# Altium schematic symbol library usb_to_rs232.SchLib: 3 symbols
Pins are listed as number, name and electrical type; pins without a type are passive.

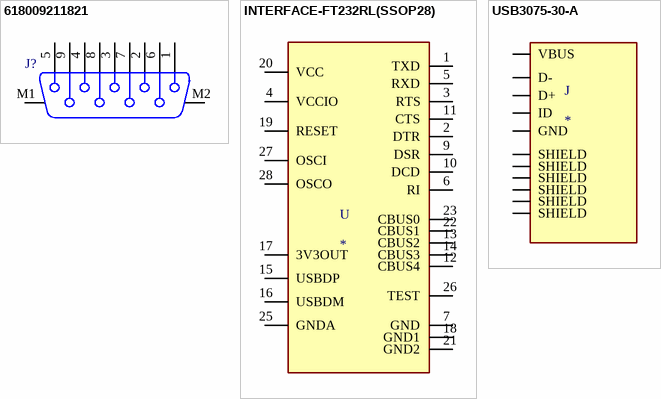
[diagram p0: symbols 618009211821 to USB3075-30-A]

## 618009211821
designator J?
WR-DSUB 8.08mm Female PCB Connector without Hex Screw, Angled, 9p; Manufacturer Part Number: 618009211821; Manufacturer: Wurth Elektronik; Pin Number: 9; Rated Current: 3A; Contact Resistance: 30mOhm; Working Voltage: 125VAC; Withstanding Voltage: 1000VAC; ComponentLink1Description: Manufacturer; ComponentLink1URL: http://www.we-online.de; ComponentLink2Description: Datasheet; ComponentLink2URL: https://www.we-online.com/catalog/datasheet/618009211821.pdf; Published Date: April 2021; Type: Angled; Operating Temperature: -55 to +105degC; Mounting Technology: THT; Gender: Female; Packaging: Tray
footprint 618009211821
pins: 1, 2, 3, 4, 5, 6, 7, 8, 9, M1, M2

## INTERFACE-FT232RL(SSOP28)
designator U
USB Bridge, USB to UART USB 2.0 UART Interface 28-SSOP; MP: FT232RL; MF: FTDI, Future; SnapEDA_Link: https://www.snapeda.com/parts/FT232RL/FTDI%2C%20Future%20Technology%20Devices%20International%20Ltd/view-part/1077088/?ref=snap; Package: SSOP-28 FTDI, Future; Price: None; Value: *; Availability: Unavailable
footprint SSOP28-0.65-10.2X5.2MM
pins: 1 TXD, 2 DTR, 3 RTS, 4 VCCIO, 5 RXD, 6 RI, 7 GND, 9 DSR, 10 DCD, 11 CTS, 12 CBUS4, 13 CBUS2, 14 CBUS3, 15 USBDP, 16 USBDM, 17 3V3OUT, 18 GND1, 19 RESET, 20 VCC, 21 GND2, 22 CBUS1, 23 CBUS0, 25 GNDA, 26 TEST, 27 OSCI, 28 OSCO

## USB3075-30-A
designator J
USB - micro B USB 2.0 Receptacle Connector 5 Position Surface Mount, Right Angle; Through Hole; MF: Global Connector Technology; MP: USB3075-30-A; SnapEDA_Link: https://www.snapeda.com/parts/USB3075-30-A/Global%20Connector%20Technology/view-part/229370/?ref=snap; Value: *; Digi-Key_Part_Number: 2073-USB3075-30-ACT-ND; Digi-Key_Purchase_URL: https://www.digikey.com/product-detail/en/gct/USB3075-30-A/2073-USB3075-30-ACT-ND/9859705?utm_source=snapeda&utm_medium=aggregator&utm_campaign=symbol; Package: None
footprint GCT_USB3075-30-A
pins: 1 VBUS (power), 2 D-, 3 D+, 4 ID, 5 GND (power), S1 SHIELD, S2 SHIELD, S3 SHIELD, S4 SHIELD, S5 SHIELD, S6 SHIELD